# Altium schematic symbol library TS5A3166DBVR.SchLib: 1 symbol
Pins are listed as number, name and electrical type; pins without a type are passive.

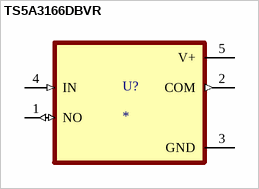
[diagram p0: symbol TS5A3166DBVR]

## TS5A3166DBVR
designator U?
0.9-â„¦ on-state resistance, 5-V, 1:1 (SPST), 1-channel analog switch (active high); MF: Texas Instruments; MP: TS5A3166DBVR; SnapEDA_Link: https://www.snapeda.com/parts/TS5A3166DBVR/Texas+Instruments/view-part/?ref=snap; Package: SOT-23-5 Texas Instruments; Value: *; Check_prices: https://www.snapeda.com/parts/TS5A3166DBVR/Texas+Instruments/view-part/?ref=eda
footprint SOT95P280X145-5N
pins: 1 NO (io), 2 COM (out), 3 GND (power), 4 IN (in), 5 V+ (power)